# Altium schematic symbol library REG101.Schlib: 1 symbol
Pins are listed as number, name and electrical type; pins without a type are passive.

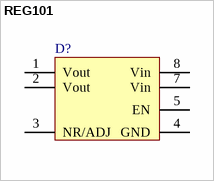
[diagram p0: symbol REG101]

## REG101
designator D?
Positive LDO regulator; Package Information: Latest Revision: ver11.0, Feb-2003; Configures: APEX II, APEX 20K, Mercury, ACEX 1K & FLEX Devices; Code - JEDEC: MS-026-ABA; Published: 17-Sep-2003; Datasheet: Latest Revision: ver1.1, Oct-2003; Package Reference: TQFP32; Publisher: Altium Limited
footprint SO-8
pins: 1 Vout (power), 2 Vout (power), 3 NR/ADJ (power), 4 GND (power), 5 EN (power), 7 Vin (power), 8 Vin (power)